# Altium integrated library BM03B-SRSS-TB_LF__SN_.IntLib: 1 symbol
Pins are listed as number, name and electrical type; pins without a type are passive.

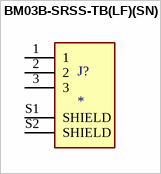
[diagram p0: symbol BM03B-SRSS-TB(LF)(SN)]

## BM03B-SRSS-TB(LF)(SN)
designator J?
Connector Header Surface Mount 3 position 0.039 (1.00mm); MP: BM03B-SRSS-TB(LF)(SN); MF: JST Sales America Inc.; Availability: In Stock; Package: None; SnapEDA_Link: https://www.snapeda.com/parts/BM03B-SRSS-TB(LF)(SN)/JST/view-part/?ref=snap; Purchase-URL: https://pricing.snapeda.com/search/part/BM03B-SRSS-TB(LF)(SN)/?ref=eda; Check_prices: https://www.snapeda.com/parts/BM03B-SRSS-TB(LF)(SN)/JST/view-part/?ref=eda; Value: *; Price: None
footprint JST_BM03B-SRSS-TB(LF)(SN)
pins: 1, 2, 3, S1 SHIELD, S2 SHIELD